# EAGLE library part ALLEGRO_ACS713 (library mbed-microcontroller)
Allegro ACS713 0 - 30 Ampere Sensor
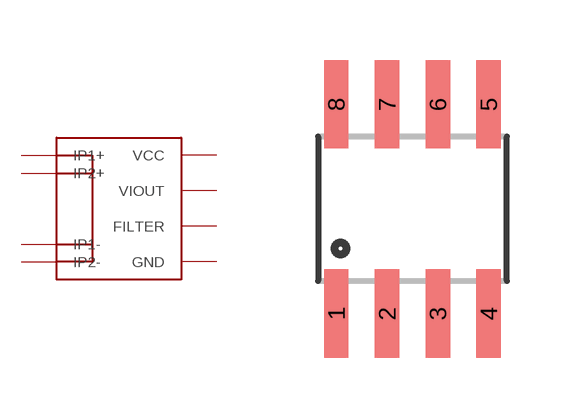
[diagram p20: symbol with the pads of SO8; footprint SO8]

Designator prefix -

## ALLEGRO_ACS713  [SO8]
1  IP1+
2  IP2+
3  IP1-
4  IP2-
5  GND
6  FILTER
7  VIOUT
8  VCC

## Footprint SO8 (pad centres in mm)
smd 0.61 x 2.21: 1 -1.905,-2.616; 2 -0.635,-2.616; 3 0.635,-2.616; 4 1.905,-2.616; 5 1.905,2.616; 6 0.635,2.616; 7 -0.635,2.616; 8 -1.905,2.616